# Altium schematic symbol library Microcontrollers.SchLib: 4 symbols
Pins are listed as number, name and electrical type; pins without a type are passive.

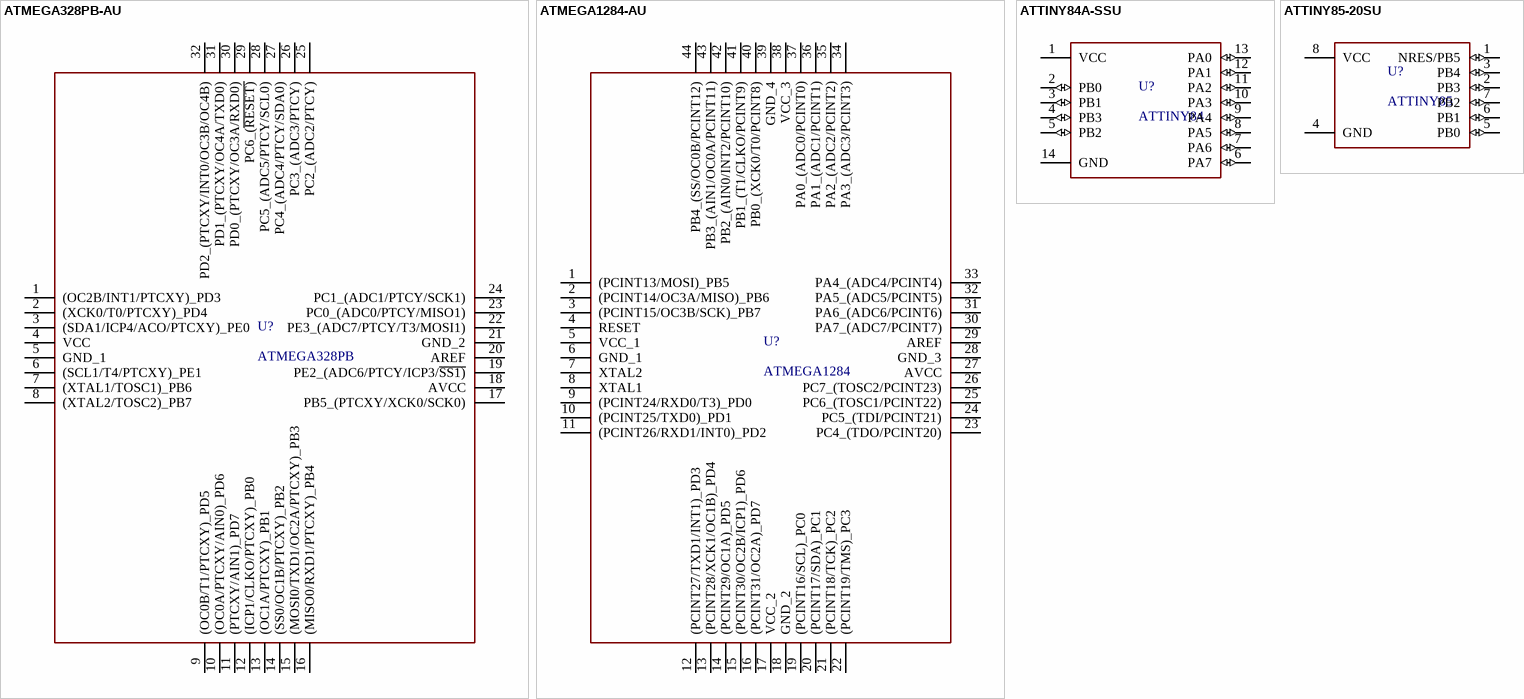
[diagram p0: symbols ATMEGA328PB-AU to ATTINY85-20SU]

## ATMEGA328PB-AU
designator U?, comment ATMEGA328PB
IC MCU 8BIT 32KB FLASH 32TQFP; Manufacturer: Microchip; Manufacturer Part Number: ATMEGA328PB-AU; Supplier 1: Farnell; Supplier Part Number 1: 2523203; RoHS: No; Category: Microcontrollers; Stock 1: 2845; Case/Package: TQFP; ComponentLink1URL: http://www.farnell.com/datasheets/2915218.pdf?src-supplier=Farnell; ComponentLink1Description: http://www.farnell.com/datasheets/2915218.pdf?src-supplier=Farnell; ComponentLink2URL: http://www.farnell.com/datasheets/2915218.pdf?src-supplier=Newark; ComponentLink2Description: http://www.farnell.com/datasheets/2915218.pdf?src-supplier=Newark; ComponentLink3URL: http://www.microchip.com/mymicrochip/filehandler.aspx?ddocname=en589666&src-supplier=Digi-Key; ComponentLink3Description: http://www.microchip.com/mymicrochip/filehandler.aspx?ddocname=en589666&src-supplier=Digi-Key; Price: 1.13
footprint TQFP32
pins: 1 (OC2B/INT1/PTCXY)_PD3, 2 (XCK0/T0/PTCXY)_PD4, 3 (SDA1/ICP4/ACO/PTCXY)_PE0, 4 VCC, 5 GND_1, 6 (SCL1/T4/PTCXY)_PE1, 7 (XTAL1/TOSC1)_PB6, 8 (XTAL2/TOSC2)_PB7, 9 (OC0B/T1/PTCXY)_PD5, 10 (OC0A/PTCXY/AIN0)_PD6, 11 (PTCXY/AIN1)_PD7, 12 (ICP1/CLKO/PTCXY)_PB0, 13 (OC1A/PTCXY)_PB1, 14 (SS0/OC1B/PTCXY)_PB2, 15 (MOSI0/TXD1/OC2A/PTCXY)_PB3, 16 (MISO0/RXD1/PTCXY)_PB4, 17 PB5_(PTCXY/XCK0/SCK0), 18 AVCC, 19 PE2_(ADC6/PTCY/ICP3/~{SS1)}, 20 AREF, 21 GND_2, 22 PE3_(ADC7/PTCY/T3/MOSI1), 23 PC0_(ADC0/PTCY/MISO1), 24 PC1_(ADC1/PTCY/SCK1), 25 PC2_(ADC2/PTCY), 26 PC3_(ADC3/PTCY), 27 PC4_(ADC4/PTCY/SDA0), 28 PC5_(ADC5/PTCY/SCL0), 29 PC6_(~{RESET)}, 30 PD0_(PTCXY/OC3A/RXD0), 31 PD1_(PTCXY/OC4A/TXD0), 32 PD2_(PTCXY/INT0/OC3B/OC4B)

## ATMEGA1284-AU
designator U?, comment ATMEGA1284
Integrated Circuit; Manufacturer_Name: Microchip; Manufacturer_Part_Number: ATMEGA1284-AU; Datasheet Link: http://ww1.microchip.com/downloads/en/devicedoc/atmel-42718-atmega1284_datasheet_summary.pdf; Height: 1.2mm; Price: 4.5
footprint TQFP44
pins: 1 (PCINT13/MOSI)_PB5, 2 (PCINT14/OC3A/MISO)_PB6, 3 (PCINT15/OC3B/SCK)_PB7, 4 RESET, 5 VCC_1, 6 GND_1, 7 XTAL2, 8 XTAL1, 9 (PCINT24/RXD0/T3)_PD0, 10 (PCINT25/TXD0)_PD1, 11 (PCINT26/RXD1/INT0)_PD2, 12 (PCINT27/TXD1/INT1)_PD3, 13 (PCINT28/XCK1/OC1B)_PD4, 14 (PCINT29/OC1A)_PD5, 15 (PCINT30/OC2B/ICP1)_PD6, 16 (PCINT31/OC2A)_PD7, 17 VCC_2, 18 GND_2, 19 (PCINT16/SCL)_PC0, 20 (PCINT17/SDA)_PC1, 21 (PCINT18/TCK)_PC2, 22 (PCINT19/TMS)_PC3, 23 PC4_(TDO/PCINT20), 24 PC5_(TDI/PCINT21), 25 PC6_(TOSC1/PCINT22), 26 PC7_(TOSC2/PCINT23), 27 AVCC, 28 GND_3, 29 AREF, 30 PA7_(ADC7/PCINT7), 31 PA6_(ADC6/PCINT6), 32 PA5_(ADC5/PCINT5), 33 PA4_(ADC4/PCINT4), 34 PA3_(ADC3/PCINT3), 35 PA2_(ADC2/PCINT2), 36 PA1_(ADC1/PCINT1), 37 PA0_(ADC0/PCINT0), 38 VCC_3, 39 GND_4, 40 PB0_(XCK0/T0/PCINT8), 41 PB1_(T1/CLKO/PCINT9), 42 PB2_(AIN0/INT2/PCINT10), 43 PB3_(AIN1/OC0A/PCINT11), 44 PB4_(SS/OC0B/PCINT12)

## ATTINY84A-SSU
designator U?, comment ATTINY84
MCU 8-bit ATtiny AVR RISC 8KB Flash 2.5V/3.3V/5V 14-Pin SOIC; Manufacturer: Microchip / Atmel; Manufacturer Part Number: ATTINY84A-SSU; Data Bus Width: 8b; Oscillator Type: Internal; Max Frequency: 20MHz; Number of Programmable I/O: 12; Peripherals: Brown-out Detect/Reset,POR,PWM,WDT,Temp Sensor; Watchdog Timer: Yes; Interface: SPI; Max Supply Voltage: 5.5V; Min Supply Voltage: 1.8V; RAM Size: 512B; Number of Timers/Counters: 2; Number of I2C Channels: 1; Number of ADC Channels: 8; Supplier 1: Farnell; Supplier Part Number 1: 1972173; RoHS: Yes; Category: Microcontrollers; Stock: 464; Pricing: 1=0.70200, 10=0.67100, 25=0.63900, 50=0.58800 (EUR); Mount: Surface Mount; Case/Package: SOIC; Number of Pins: 14; Contact Plating: Tin,Matte; Min Operating Temperature: -40°C; Max Operating Temperature: 85°C; Core Architecture: AVR; Package Quantity: 57; Memory Type: FLASH; Memory Size: 8KB; Frequency: 20MHz; Packaging: Rail/Tube; Number of I/Os: 12; Number of SPI Channels: 2; Number of PWM Channels: 2; Length: 8.74mm; Height: 1.75mm; Width: 3.99mm; Radiation Hardening: No; Lead Free: Lead Free; REACH SVHC: No SVHC; ComponentLink1URL: https://datasheet.ciiva.com/6639/8183s-6639804.pdf?src-supplier=Digi-Key; ComponentLink1Description: https://datasheet.ciiva.com/6639/8183s-6639804.pdf?src-supplier=Digi-Key; ComponentLink2URL: https://datasheet.ciiva.com/3203/8183s-3203999.pdf?src-supplier=Avnet; ComponentLink2Description: https://datasheet.ciiva.com/3203/8183s-3203999.pdf?src-supplier=Avnet
footprint SO-14 (SOIC, 14-Leads, Body 8.65x3.90mm, Pitch 1.27mm, IPC Medium Density)
pins: 1 VCC (power), 2 PB0 (io), 3 PB1 (io), 4 PB3 (io), 5 PB2 (io), 6 PA7 (io), 7 PA6 (io), 8 PA5 (io), 9 PA4 (io), 10 PA3 (io), 11 PA2 (io), 12 PA1 (io), 13 PA0 (io), 14 GND

## ATTINY85-20SU
designator U?, comment ATTINY85
IC, 8BIT MCU, AVR TINY, 20MHZ, 8-SOIC; Manufacturer: Microchip / Atmel; Manufacturer Part Number: ATTINY85-20SU; Memory Type: FLASH; Memory Size: 8KB; Number of Timers/Counters: 2; RAM Size: 512B; Interface: SPI; Max Supply Voltage: 5.5V; Min Supply Voltage: 2.7V; Number of I/Os: 6; Oscillator Type: Internal; Peripherals: Brown-out Detect/Reset; Data Bus Width: 8b; Watchdog Timer: Yes; Number of ADC Channels: 4; Number of UART Channels: 1; Access Time: 20us; Supplier 1: Farnell; Supplier Part Number 1: 1455164; Stock: 2172; Pricing: 1=0.972, 25=0.925, 100=0.894, 1000=0.862 (EUR); RoHS: Yes; Mount: Surface Mount; Case/Package: SOIC; Number of Pins: 8; Contact Plating: Tin; Min Operating Temperature: -40°C; Max Operating Temperature: 85°C; Frequency: 20MHz; Packaging: Rail/Tube; Core Architecture: AVR; Package Quantity: 95; Number of Programmable I/O: 6; Max Frequency: 20MHz; Number of PWM Channels: 6; Density: 8KB; Number of SPI Channels: 1; Number of I2C Channels: 1; Termination: SMD/SMT; Length: 5.35mm; Height: 1.91mm; Width: 5.4mm; Radiation Hardening: No; Lead Free: Lead Free; REACH SVHC: No SVHC; ComponentLink1URL: https://datasheet.ciiva.com/1167/1698186-1167152.pdf?src-supplier=Newark; ComponentLink1Description: https://datasheet.ciiva.com/1167/1698186-1167152.pdf?src-supplier=Newark; ComponentLink2URL: https://datasheet.ciiva.com/15122/getdatasheetpartid-131914-15122511.pdf?src-supplier=Verical; ComponentLink2Description: https://datasheet.ciiva.com/15122/getdatasheetpartid-131914-15122511.pdf?src-supplier=Verical; ComponentLink3URL: https://datasheet.ciiva.com/26207/doc2586-26207573.pdf?src-supplier=Avnet+Europe; ComponentLink3Description: https://datasheet.ciiva.com/26207/doc2586-26207573.pdf?src-supplier=Avnet+Europe; ComponentLink4URL: https://datasheet.ciiva.com/28653/1698186-28653829.pdf?src-supplier=Element14; ComponentLink4Description: https://datasheet.ciiva.com/28653/1698186-28653829.pdf?src-supplier=Element14; ComponentLink5URL: https://datasheet.ciiva.com/3203/doc2586-3203150.pdf?src-supplier=Avnet; ComponentLink5Description: https://datasheet.ciiva.com/3203/doc2586-3203150.pdf?src-supplier=Avnet; Price: 0.98
footprint SOP8 (SOP, 8-Leads, Body 5.24x5.29mm, Pitch 1.27mm, IPC Medium Density)
pins: 1 NRES/PB5 (io), 2 PB3 (io), 3 PB4 (io), 4 GND (power), 5 PB0 (io), 6 PB1 (io), 7 PB2 (io), 8 VCC (power)